# Altium schematic symbol library MT25QL256ABA8E12-0AUT.SchLib: 1 symbol
Pins are listed as number, name and electrical type; pins without a type are passive.

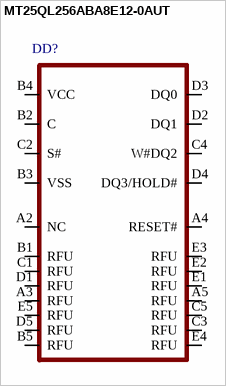
[diagram p0: symbol MT25QL256ABA8E12-0AUT]

## MT25QL256ABA8E12-0AUT
designator DD?
pins: A2 NC, A3 RFU, A4 RESET#, A5 RFU, B1 RFU, B2 C, B3 VSS, B4 VCC, B5 RFU, C1 RFU, C2 S#, C3 RFU, C4 W#DQ2, C5 RFU, D1 RFU, D2 DQ1, D3 DQ0, D4 DQ3/HOLD#, D5 RFU, E1 RFU, E2 RFU, E3 RFU, E4 RFU, E5 RFU